# Altium schematic symbol library CMP-009-00021-1.Schlib: 1 symbol
Pins are listed as number, name and electrical type; pins without a type are passive.

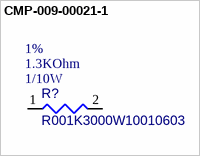
[diagram p0: symbol CMP-009-00021-1]

## CMP-009-00021-1
designator R?, comment R001K3000W10010603  value 1.3KOhm  Power: 1/10W  Tolerance: 1%
RES SMD 1.3K OHM 1% 1/10W 0603; Type: Thick film; Package: 0603
footprint RESC1608X06N (Res0603)
pins: 1, 2
1 alternate drawing of the same symbol